# Altium integrated library GRM188Z71A106KA73D.IntLib: 1 symbol
Pins are listed as number, name and electrical type; pins without a type are passive.

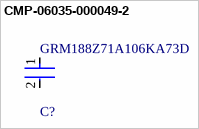
[diagram p0: symbol CMP-06035-000049-2]

## CMP-06035-000049-2
designator C?, comment GRM188Z71A106KA73D
Chip Multilayer Ceramic Capacitors for General Purpose, 0603, 10uF, X7R, 15%, 10%, 10V
footprint FP-GRM188-0_2-IPC_C
footprint FP-GRM188-0_2-IPC_B
footprint FP-GRM188-0_2-MFG
footprint FP-GRM188-0_2-IPC_A
pins: 1, 2